# EAGLE library part CONNECTOR_8PIN (library lolomolo)
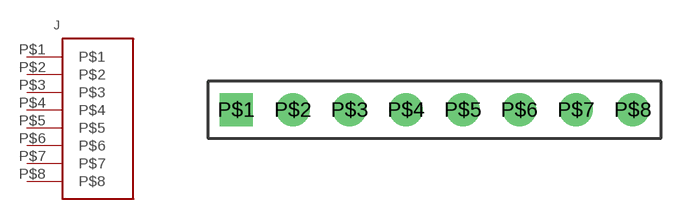
[diagram p4: symbol with the pads of 8PIN_.1'; footprint 8PIN_.1']

Designator prefix J

## CONNECTOR_8PIN  [8PIN_.1']
P$1  P$1
P$2  P$2
P$3  P$3
P$4  P$4
P$5  P$5
P$6  P$6
P$7  P$7
P$8  P$8

## Footprint 8PIN_.1' (pad centres in mm)
drill 0.991 square: P$1 -8.89,0
drill 0.991: P$2 -6.35,0; P$3 -3.81,0; P$4 -1.27,0; P$5 1.27,0; P$6 3.81,0; P$7 6.35,0; P$8 8.89,0